# Altium integrated library LM78x_TO220.IntLib: 1 symbol
Pins are listed as number, name and electrical type; pins without a type are passive.

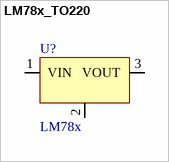
[diagram p0: symbol LM78x_TO220]

## LM78x_TO220
designator U?, comment LM78x
footprint TO220
pins: 1 VIN, 2 GND, 3 VOUT